# Altium footprint library usbArmFootprint.PcbLib: 8 footprints
Each footprint in its own frame and in the unit in brackets; x right, y up, seen from the top. Pads: shape width x height; smd on the part's side, far side on the other; paste and mask are expansions set on the pad; w line width, h text height; cw(c..) or ccw(c..) is an arc to the next point about the centre after c.
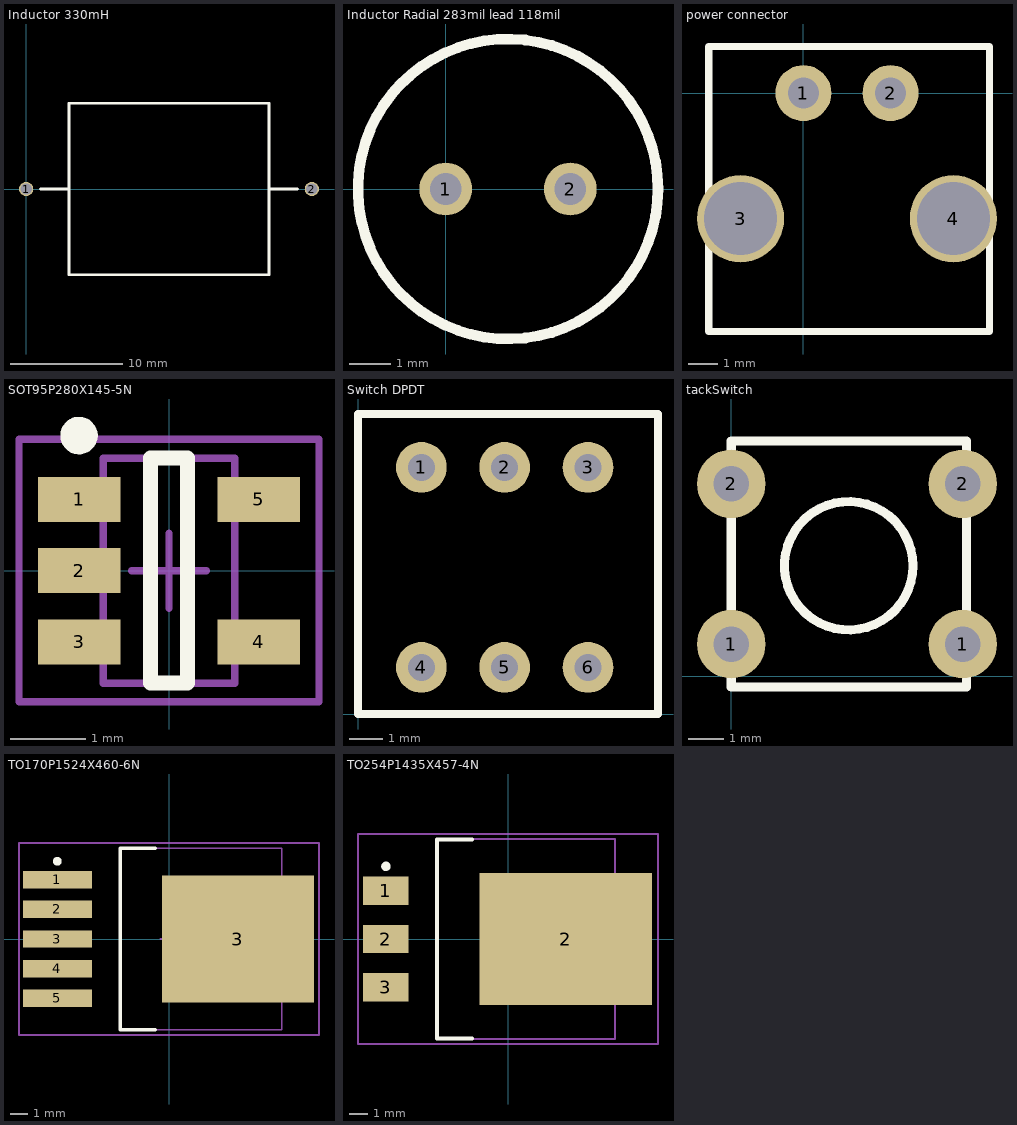
[diagram p0: the footprints below, top view; thin cyan lines are the x and y axes]

## Inductor 330mH [mil]
pads (2):
  round 50 hole 40: 1(0,0) 2(1000,0)
Top Overlay:
  lines w10: 50,0 150,0 ; 850,0 950,0 ; 150,0 150,300 850,300 850,-300 150,-300 150,0

## Inductor Radial 283mil lead 118mil [mil]
pads (2):
  round 50 hole 30: 1(0,0) 2(118,0)
Top Overlay:
  circle w10: c59,0 r142

## power connector [mm]
pads (4):
  round 1.924 hole 1.07: 1(0,0) 2(3,0)
  round 3 hole 2.51 paste+0: 3(-2.16,-4.32)
  round 3 hole 2.51: 4(5.16,-4.32)
Top Overlay:
  lines w0.254: -3.25,-8.2 6.4,-8.2 6.4,1.6 -3.25,1.6 -3.25,-8.2

## SOT95P280X145-5N [mm] "SOT23, 5-Leads, Body 3,0x3,0mm (max), Pitch 0,95mm, IPC Medium Density"
height 1.45
pads (5):
  rect 1.1x0.6 smd: 1(-1.2,0.95) 2(-1.2,0) 3(-1.2,-0.95) 4(1.2,-0.95) 5(1.2,0.95)
Top Overlay:
  circle w0.25: c-1.2,1.8 r0.125
  lines w0.2: -0.25,-1.5 0.25,-1.5 0.25,1.5 -0.25,1.5 -0.25,-1.5
Mechanical 13:
  lines w0.1: -0.875,-1.5 -0.875,1.5 0.875,1.5 0.875,-1.5 -0.875,-1.5
Mechanical 15:
  lines w0.1: -0.5,0 0.5,0 ; 0,-0.5 0,0.5 ; -2,-1.75 -2,1.75 2,1.75 2,-1.75 -2,-1.75
3D body: height 1.45, standoff 0, extent -0.875,-1.5 0.875,1.5

## Switch DPDT [mm]
pads (6):
  oval 1.524x1.523 hole 0.81 square: 1(1.9,7.4)
  oval 1.524x1.523 hole 0.81: 2(4.4,7.4) 3(6.9,7.4) 4(1.9,1.4) 5(4.4,1.4) 6(6.9,1.4)
Top Overlay:
  lines w0.254: 0,0 0,9 9,9 9,0 0,0

## tackSwitch [mm]
pads (4):
  round 1.924 hole 1: 1(0,0.9) 1(6.5,0.9) 2(0,5.4) 2(6.5,5.4)
Top Overlay:
  circle w0.254: c3.297,3.1 r1.803
  lines w0.254: 0,-0.3 0,6.6 6.6,6.6 6.6,-0.3 0,-0.3

## TO170P1524X460-6N [mm] "D2-PAK, 6-Pads, Body 9,3x10,4mm (max), IPC Medium Density"
height 4.597
pads (6):
  rect 3.95x1 smd: 1(-6.4,3.404) 2(-6.4,1.702) 3(-6.4,0) 4(-6.4,-1.702) 5(-6.4,-3.404)
  rect 8.7x7.3 smd: 3(3.95,0)
Top Overlay:
  circle w0.25: c-6.4,4.454 r0.125
  lines w0.2: -0.8,-5.2 -2.8,-5.2 -2.8,5.2 -0.8,5.2
Mechanical 13:
  lines w0.1: -2.8,-5.2 -2.8,5.2 6.47,5.2 6.47,-5.2 -2.8,-5.2
Mechanical 15:
  lines w0.1: -0.5,0 0.5,0 ; 0,-0.5 0,0.5 ; -8.6,-5.5 -8.6,5.5 8.6,5.5 8.6,-5.5 -8.6,-5.5
3D body: height 4.6, standoff 0.33, extent -2.8,-5.2 6.47,5.2

## TO254P1435X457-4N [mm] "D2-PAK, 4-Pads, Body 9,4x10,5mm (max), IPC Medium Density"
height 4.572
pads (4):
  rect 2.4x1.5 smd: 1(-6.45,2.54) 2(-6.45,0) 3(-6.45,-2.54)
  rect 9.1x6.95 smd: 2(3.05,0)
Top Overlay:
  circle w0.25: c-6.45,3.84 r0.125
  lines w0.2: -1.9,-5.25 -3.75,-5.25 -3.75,5.25 -1.9,5.25
Mechanical 13:
  lines w0.1: -3.75,-5.275 5.65,-5.275 5.65,5.275 -3.75,5.275 -3.75,-5.275
Mechanical 15:
  lines w0.1: -0.5,0 0.5,0 ; 0,-0.5 0,0.5 ; -7.925,-5.55 7.925,-5.55 7.925,5.55 -7.925,5.55 -7.925,-5.55
3D body: height 4.57, standoff 0.33, extent -3.75,-5.275 5.65,5.275